# Altium schematic symbol library EDP_schematic.SchLib: 41 symbols (part 2 of 2)
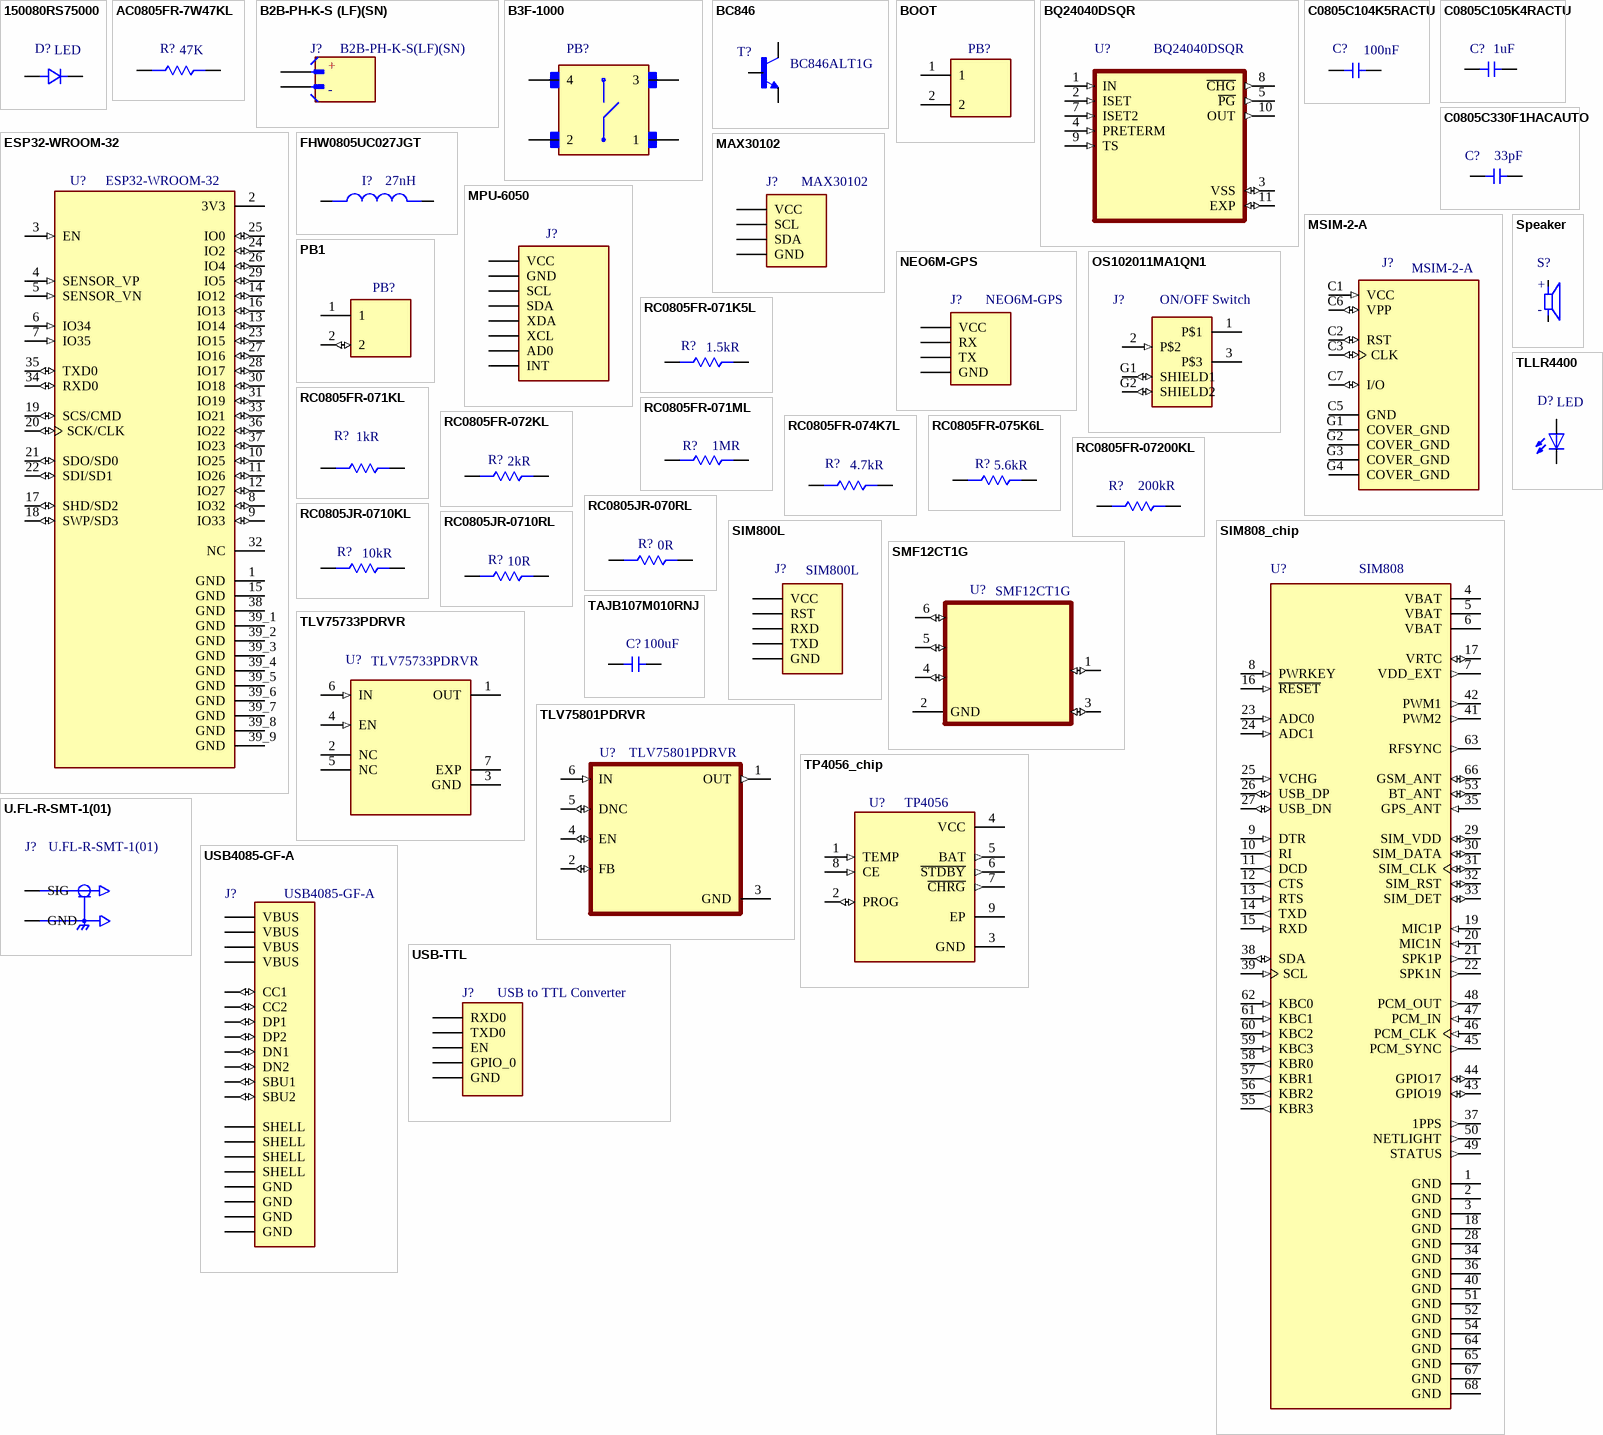
[diagram p2: symbols 150080RS75000 to USB-TTL]

## USB4085-GF-A
designator J?  Manufacturer Part Number: USB4085-GF-A  (hidden comment: *)
USB Connector, 16 Contact(s), Female, Right Angle, Solder Terminal, Receptacle; Manufacturer: Global Connector Technology; Supplier Part Number: 2073-USB4085-GF-ACT-ND; RoHS: Yes; Category: USB Connectors; Stock: 14168; Pricing: 1=0.88, 10=0.751, 25=0.7036, 50=0.67, 100=0.6379, 250=0.59792 (USD); ComponentLink1URL: https://datasheet.ciiva.com/71788/2674755-71788146.pdf?src-supplier=Element14; ComponentLink1Description: https://datasheet.ciiva.com/71788/2674755-71788146.pdf?src-supplier=Element14; ComponentLink2URL: https://datasheet.ciiva.com/71788/usb4085-71788147.pdf?src-supplier=Digikey; ComponentLink2Description: https://datasheet.ciiva.com/71788/usb4085-71788147.pdf?src-supplier=Digikey; Supplier: Digikey
footprint USB4085-GF-A
pins: A1 GND (power), A4 VBUS (power), A5 CC1 (io), A6 DP1 (io), A7 DN1 (io), A8 SBU1 (io), A9 VBUS (power), A12 GND (power), B1 GND (power), B4 VBUS (power), B5 CC2 (io), B6 DP2 (io), B7 DN2 (io), B8 SBU2 (io), B9 VBUS (power), B12 GND (power), S1 SHELL, S2 SHELL, S3 SHELL, S4 SHELL

## USB-TTL
designator J?  (value not drawn)
footprint USB-TTL
pins: 01 RXD0, 02 TXD0, 03 EN, 04 GPIO_0, 05 GND
text: USB to TTL Converter

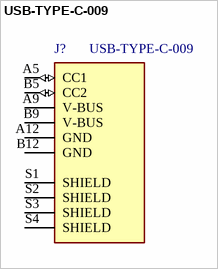
[diagram p1: symbol USB-TYPE-C-009]

## USB-TYPE-C-009
designator J?
footprint USB-TYPE-C-009
pins: A5 CC1 (io), A9 V-BUS (power), A12 GND (power), B5 CC2 (io), B9 V-BUS (power), B12 GND (power), S1 SHIELD, S2 SHIELD, S3 SHIELD, S4 SHIELD